# EAGLE library part HCMS230X (library display-hp)
LED DISPLAY 4-character dot matrix
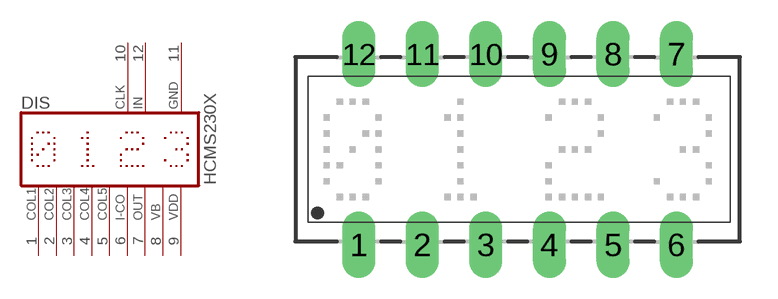
[diagram p5: symbol with the pads of HCMS230X; footprint HCMS230X]

Designator prefix DIS

## HCMS230X (OC_FARNELL: unknown; OC_NEWARK: unknown)  [HCMS230X]
1  COL1  in
2  COL2  in
3  COL3  in
4  COL4  in
5  COL5  in
6  I-CO  in
7  OUT  in
8  VB  in
9  VDD  pwr
10  CLK  in
11  GND  pwr
12  IN  in

## Footprint HCMS230X (pad centres in mm)
LED DISPLAY 4-mm 4 character dot matrix
drill 0.813 long: 1 -6.35,-3.81; 2 -3.81,-3.81; 3 -1.27,-3.81; 4 1.27,-3.81; 5 3.81,-3.81; 6 6.35,-3.81; 7 6.35,3.81; 8 3.81,3.81; 9 1.27,3.81; 10 -1.27,3.81; 11 -3.81,3.81; 12 -6.35,3.81